# EAGLE library part DM3AT (library HIROSE-DM3AT)
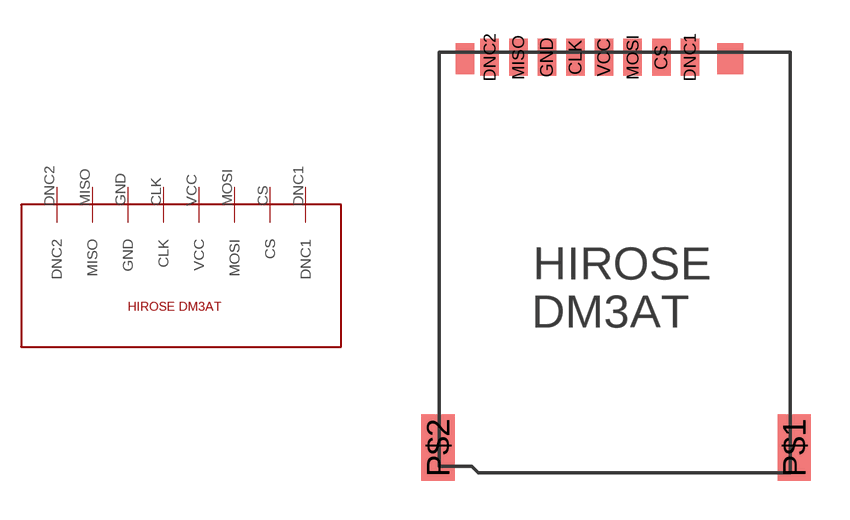
[diagram p0: symbol with the pads of DM3AT; footprint DM3AT]

Designator prefix -

## DM3AT  [DM3AT]
CLK  CLK
CS  CS
DNC1  DNC1
DNC2  DNC2
GND  GND
MISO  MISO
MOSI  MOSI
VCC  VCC

## Footprint DM3AT (pad centres in mm)
smd 0.711 x 1.422: CLK -1.56,6.63; CS 1.74,6.63; DNC1 2.84,6.63; DNC2 -4.86,6.63; GND -2.66,6.63; MISO -3.76,6.63; MOSI 0.64,6.63; VCC -0.46,6.63
smd 1.27 x 2.54: P$1 6.85,-8.39; P$2 -6.85,-8.39